# Altium footprint library wch554e.PcbLib: 13 footprints
Each footprint in its own frame and in the unit in brackets; x right, y up, seen from the top. Pads: shape width x height; smd on the part's side, far side on the other; paste and mask are expansions set on the pad; w line width, h text height; cw(c..) or ccw(c..) is an arc to the next point about the centre after c.
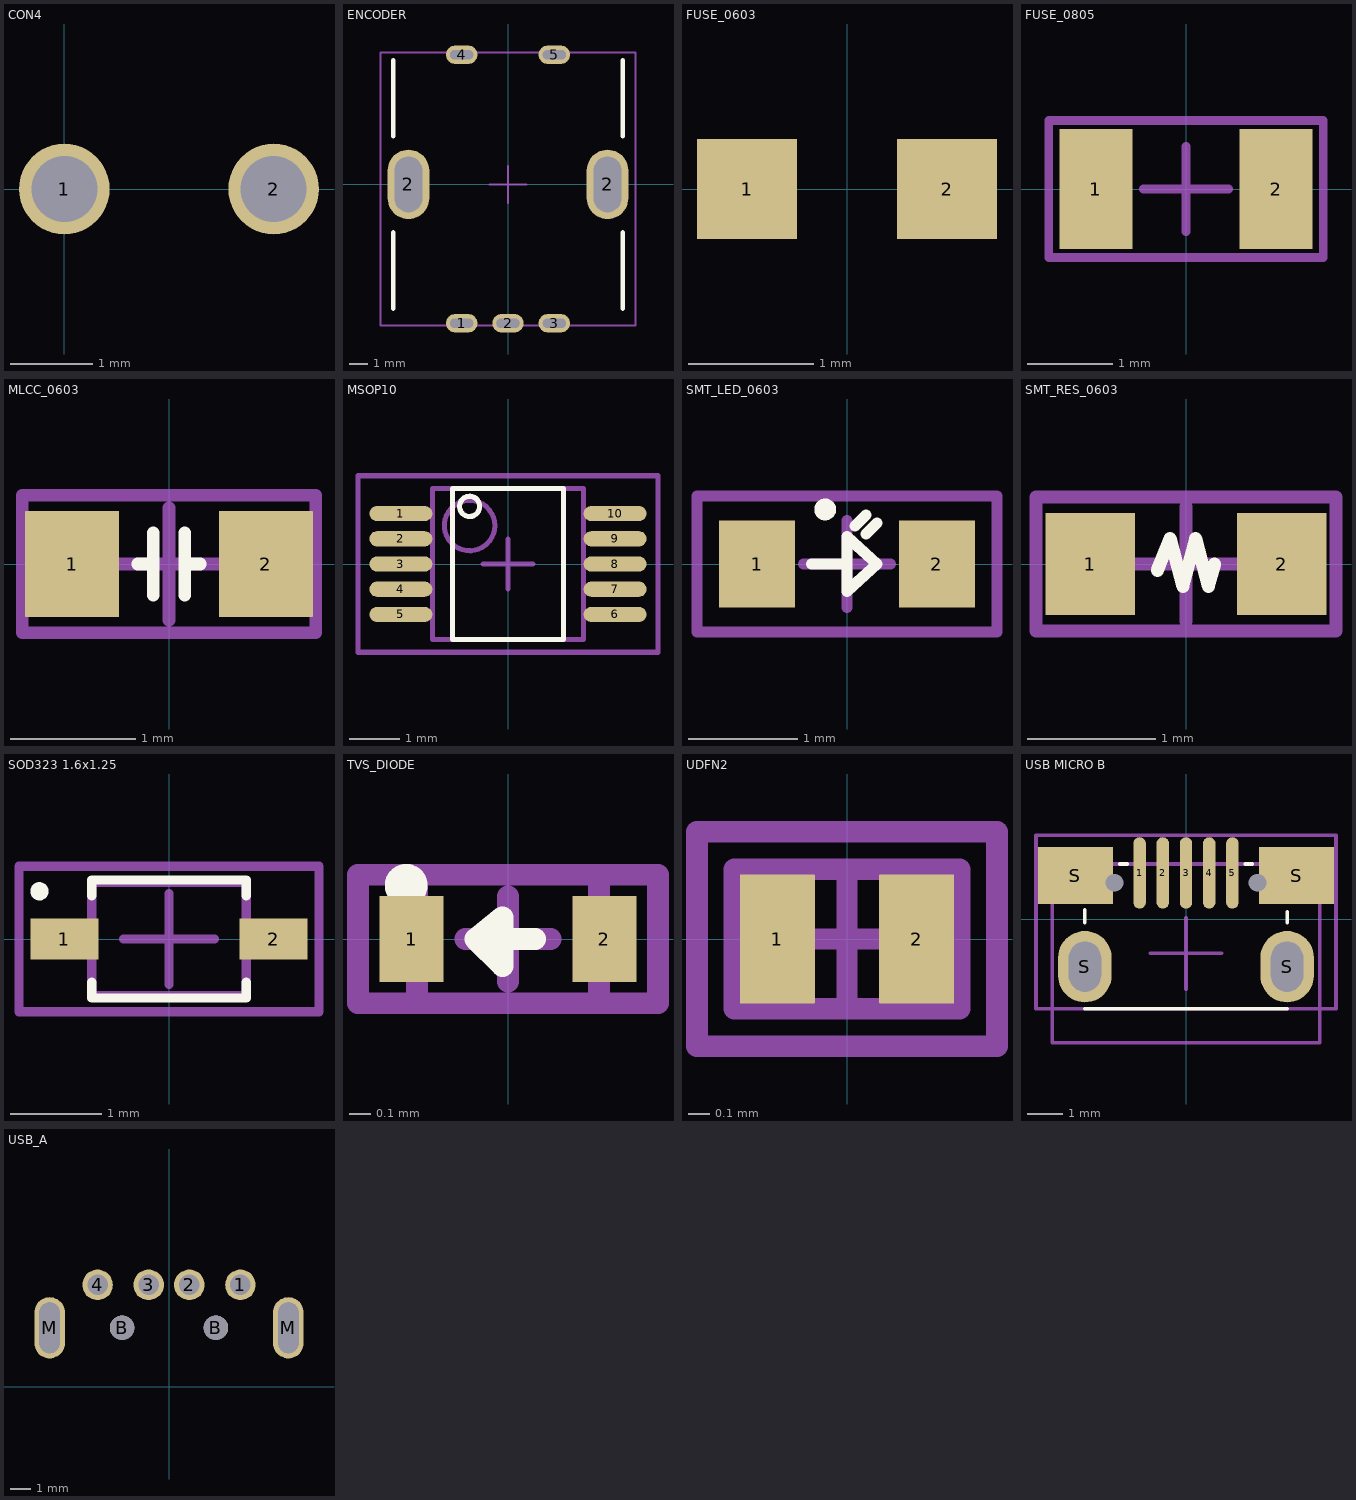
[diagram p0: the footprints below, top view; thin cyan lines are the x and y axes]

## CON4 [mm] "Debug header"
pads (2):
  rrect100% 1.1x1.1 hole 0.8: 1(0,0) 2(2.54,0)

## ENCODER [mm] "Rotary encoder"
pads (7):
  oval 1.7x1 hole 0.5 slot 1.25 at 0 deg: 1(-2.5,-7.5) 2(0,-7.5) 3(2.5,-7.5) 4(-2.5,7) 5(2.5,7)
  rrect100% 2.25x3.75 hole 1.5 slot 3 at 90 deg: 2(-5.375,0)
  oval 2.25x3.75 hole 1.5 slot 3 at 90 deg: 2(5.375,0)
Top Overlay:
  lines w0.254: -6.2,-6.7 -6.2,-2.6 ; -6.2,2.6 -6.2,6.7 ; 6.2,-6.7 6.2,-2.6 ; 6.2,2.6 6.2,6.7
Top Assembly (Mech11):
  lines w0.102: -1,0 1,0 ; 0,-1 0,1 ; -6.875,-7.625 -6.875,7.125 6.875,7.125 6.875,-7.625 -6.875,-7.625
Top Courtyard:
  lines w0.102: -6.875,-7.625 6.875,-7.625 6.875,7.125 -6.875,7.125 -6.875,-7.625
3D body "rotary_encoder.STEP": height 21.4, standoff -3.7, extent -6.156,-7.747 6.144,7.253

## FUSE_0603 [mm] "FUSE 0603"
pads (2):
  rrect1% 0.8x0.8 smd: 1(-0.8,0) 2(0.8,0)

## FUSE_0805 [mm] "FUSE_0805"
pads (2):
  rrect1% 0.85x1.4 smd: 1(-1.05,0) 2(1.05,0)
Top Courtyard:
  lines w0.102: -0.5,0 0.5,0 ; 0,-0.5 0,0.5 ; -1.6,-0.8 1.6,-0.8 1.6,0.8 -1.6,0.8 -1.6,-0.8

## MLCC_0603 [mm] "MLCC 0603"
height 0.7
pads (2):
  rrect1% 0.75x0.85 smd: 1(-0.775,0) 2(0.775,0)
Top Overlay:
  lines w0.102: -0.25,0 -0.125,0 ; -0.125,-0.25 -0.125,0.25 ; 0.125,-0.25 0.125,0.25 ; 0.125,0 0.25,0
Top Assembly (Mech11):
  lines w0.102: -1.175,-0.55 1.175,-0.55 1.175,0.55 -1.175,0.55 -1.175,-0.55
Top Courtyard:
  lines w0.102: -0.45,0 0.45,0 ; 0,-0.45 0,0.45 ; -1.175,-0.55 1.175,-0.55 1.175,0.55 -1.175,0.55 -1.175,-0.55
3D body "CAPC1608X07L.step": height 0.7, standoff 0, extent -0.85,-0.45 0.85,0.45

## MSOP10 [mm] "MSOP10 3x3 x 0.5"
height 1
pads (10):
  oval 1.25x0.3 smd: 1(-2.125,1) 2(-2.125,0.5) 3(-2.125,0) 4(-2.125,-0.5) 5(-2.125,-1) 6(2.125,-1) 7(2.125,-0.5) 8(2.125,0) 9(2.125,0.5) 10(2.125,1)
Top Overlay:
  circle w0.102: c-0.762,1.143 r0.2
  lines w0.102: -1.1,-1.5 1.1,-1.5 1.1,1.5 -1.1,1.5 -1.1,-1.5
Top Assembly (Mech11):
  circle w0.1: c-0.762,0.762 r0.5
  lines w0.102: -1.5,-1.5 -1.5,1.5 1.5,1.5 1.5,-1.5 -1.5,-1.5
Top Courtyard:
  lines w0.1: -0.5,0 0.5,0 ; 0,-0.5 0,0.5
  lines w0.102: -2.975,-1.75 2.975,-1.75 2.975,1.75 -2.975,1.75 -2.975,-1.75
3D body "MSOP10.step": height 1, standoff 0, extent -2.3,-1.5 2.3,1.5

## SMT_LED_0603 [mm] "SMT LED 0603"
height 2
pads (2):
  rrect1% 0.7x0.8 smd: 1(-0.825,0) 2(0.825,0)
Top Overlay:
  circle w0.1: c-0.2,0.5 r0.05
  lines w0.102: -0.325,0 0,0 ; 0.075,0.35 0.175,0.45 ; 0.175,0.275 0.275,0.375 ; 0,0 0,0.25 0.275,0 0,-0.25 0,0
Top Assembly (Mech11):
  lines w0.102: -0.4,0 0.4,0 ; 0,-0.4 0,0.4 ; -1.375,-0.625 -1.375,0.625 1.375,0.625 1.375,-0.625 -1.375,-0.625
Top Courtyard:
  lines w0.102: -1.375,-0.625 -1.375,0.625 1.375,0.625 1.375,-0.625 -1.375,-0.625
3D body "0603 Chip SMD LED (1.6x0.8mm)_coloured.STEP": height 0.8, standoff 0, extent -0.8,-0.4 0.8,0.4

## SMT_RES_0603 [mm] "0603 SMT Resistor"
height 0.5
pads (2):
  rrect1% 0.7x0.8 smd: 1(-0.75,0) 2(0.75,0)
Top Overlay:
  lines w0.102: -0.225,-0.05 -0.125,0.2 -0.025,-0.175 0.075,0.2 0.175,-0.175 0.225,0
Top Assembly (Mech11):
  lines w0.102: -1.175,-0.525 1.175,-0.525 1.175,0.525 -1.175,0.525 -1.175,-0.525
Top Courtyard:
  lines w0.102: -0.45,0 0.45,0 ; 0,-0.45 0,0.45 ; -1.175,-0.525 -1.175,0.525 1.175,0.525 1.175,-0.525 -1.175,-0.525
3D body "RESC1608X05L.step": height 0.5, standoff 0, extent -0.85,-0.45 0.85,0.45

## SOD323 1.6x1.25 [mm] "SODFL2 1.20x2.30mm"
height 0.9
pads (2):
  rrect1% 0.75x0.45 smd: 1(-1.15,0) 2(1.15,0)
Top Overlay:
  circle w0.1: c-1.425,0.525 r0.05
  lines w0.102: -0.85,-0.476 -0.85,-0.65 0.85,-0.65 0.85,-0.476 ; -0.85,0.476 -0.85,0.65 0.85,0.65 0.85,0.476
Top Assembly (Mech11):
  lines w0.102: -0.85,-0.625 -0.85,0.625 0.85,0.625 0.85,-0.625 -0.85,-0.625
Top Courtyard:
  lines w0.1: -0.5,0 0.5,0 ; 0,-0.5 0,0.5
  lines w0.102: -1.65,-0.8 -1.65,0.8 1.65,0.8 1.65,-0.8 -1.65,-0.8
3D body "SOD323 1.6x1.25.step": height 0.9, standoff 0, extent -1.15,-0.625 1.15,0.625

## TVS_DIODE [mm] "SODFL 98x40 2 pin"
height 0.4
pads (2):
  rrect1% 0.3x0.4 smd: 1(-0.45,0) 2(0.45,0)
Top Overlay:
  circle w0.1: c-0.475,0.25 r0.05
  lines w0.102: 0.127,0 -0.152,0 ; -0.152,0 -0.025,-0.127 -0.025,0.102 -0.152,0
Top Assembly (Mech11):
  lines w0.102: -0.425,-0.3 -0.425,0.3 0.425,0.3 0.425,-0.3 -0.425,-0.3
Top Courtyard:
  lines w0.102: -0.2,0 0.2,0 ; 0,-0.2 0,0.2 ; -0.7,-0.3 0.7,-0.3 0.7,0.3 -0.7,0.3 -0.7,-0.3
3D body "SODFL98X40-2L.step": height 0.4, standoff 0, extent -0.487,-0.325 0.487,0.325

## UDFN2 [mm] "DFN2 0.60x1.00mm, 0.65mm"
height 0.4
pads (2):
  rrect1% 0.35x0.6 smd: 1(-0.325,0) 2(0.325,0)
Top Assembly (Mech11):
  lines w0.102: -0.525,-0.325 0.525,-0.325 0.525,0.325 -0.525,0.325 -0.525,-0.325
Top Courtyard:
  lines w0.1: -0.3,0 0.3,0 ; 0,-0.3 0,0.3
  lines w0.102: -0.7,-0.5 0.7,-0.5 0.7,0.5 -0.7,0.5 -0.7,-0.5
3D body "UDFN2.step": height 0.4, standoff 0, extent -0.525,-0.325 0.525,0.325

## USB MICRO B [mm] "USB Micro B Receptacle"
pads (11):
  rrect100% 0.35x2 smd: 1(-1.3,1.3) 2(-0.65,1.3) 3(0,1.3) 4(0.65,1.3) 5(1.3,1.3)
  oval 0x0.5 hole 0.5 unplated paste+0 mask+0: B(-2,1.025) B(2,1.025)
  rrect1% 2.1x1.6 smd: S(-3.1,1.225) S(3.1,1.225)
  oval 1.5x2 hole 0.9 slot 1.4 at 90 deg: S(-2.83,-1.325) S(2.83,-1.325)
Top Overlay:
  lines w0.102: -2.83,-2.5 2.83,-2.5 ; -2.83,-0.1 -2.83,0.273 ; -1.853,1.55 -1.653,1.55 ; 1.66,1.55 1.86,1.55 ; 2.83,-0.1 2.83,0.207
Top Assembly (Mech11):
  lines w0.102: -1,-0.95 1,-0.95 ; 0,-1.95 0,0.05 ; -3.75,-3.45 3.75,-3.45 3.75,1.55 -3.75,1.55 -3.75,-3.45
Top Courtyard:
  lines w0.102: -4.2,-2.5 -4.2,2.35 4.2,2.35 4.2,-2.5 -4.2,-2.5

## USB_A [mm] "USB A Plug"
pads (8):
  round 1.5 hole 1: 1(3.5,5) 2(1,5) 3(-1,5) 4(-3.5,5)
  round 1.2 hole 1.2 unplated: B(-2.3,2.9) B(2.3,2.9)
  oval 1.5x3 hole 1 slot 2.5 at 90 deg: M(-5.85,2.9) M(5.85,2.9)
3D body "CUI_DEVICES_UP2-AH-1-TH.step": height 3.4, standoff -2.95, extent -6.3,-14.9 6.3,5.1